# Altium schematic symbol library 2450BM14E0003.Schlib: 1 symbol
Pins are listed as number, name and electrical type; pins without a type are passive.

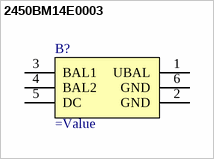
[diagram p0: symbol 2450BM14E0003]

## 2450BM14E0003
designator B?
IC BALUN nRF51822 2.45 GHz
pins: 1 UBAL, 2 GND, 3 BAL1, 4 BAL2, 5 DC, 6 GND (power)